# EAGLE library part EDGE_CONNECTOR_20POS (library thanics_robotics)
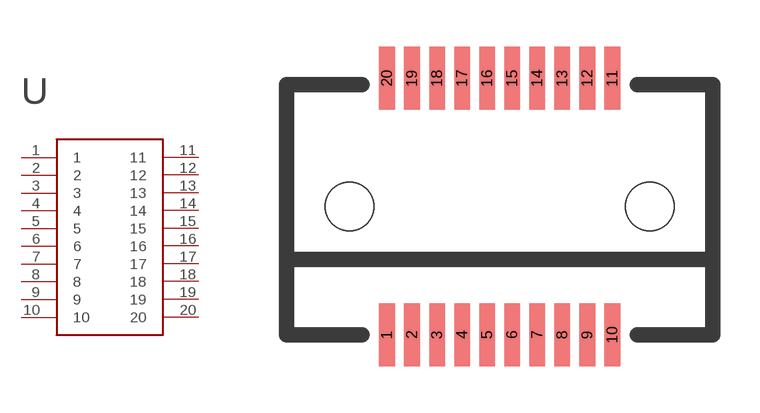
[diagram p30: symbol with the pads of EDGE_CONNECTOR_20POS; footprint EDGE_CONNECTOR_20POS]

Designator prefix -

## EDGE_CONNECTOR_20POS  [EDGE_CONNECTOR_20POS]
1  1
2  2
3  3
4  4
5  5
6  6
7  7
8  8
9  9
10  10
11  11
12  12
13  13
14  14
15  15
16  16
17  17
18  18
19  19
20  20

## Footprint EDGE_CONNECTOR_20POS (pad centres in mm)
smd 0.5 x 2: 1 -3.6,0; 2 -2.8,0; 3 -2,0; 4 -1.2,0; 5 -0.4,0; 6 0.4,0; 7 1.2,0; 8 2,0; 9 2.8,0; 10 3.6,0; 11 3.6,8.2; 12 2.8,8.2; 13 2,8.2; 14 1.2,8.2; 15 0.4,8.2; 16 -0.4,8.2; 17 -1.2,8.2; 18 -2,8.2; 19 -2.8,8.2; 20 -3.6,8.2
hole 1.55 at -4.8,4.1
hole 1.55 at 4.8,4.1